# Altium schematic symbol library OltestLib_RC.SchLib: 96 symbols
Pins are listed as number, name and electrical type; pins without a type are passive.

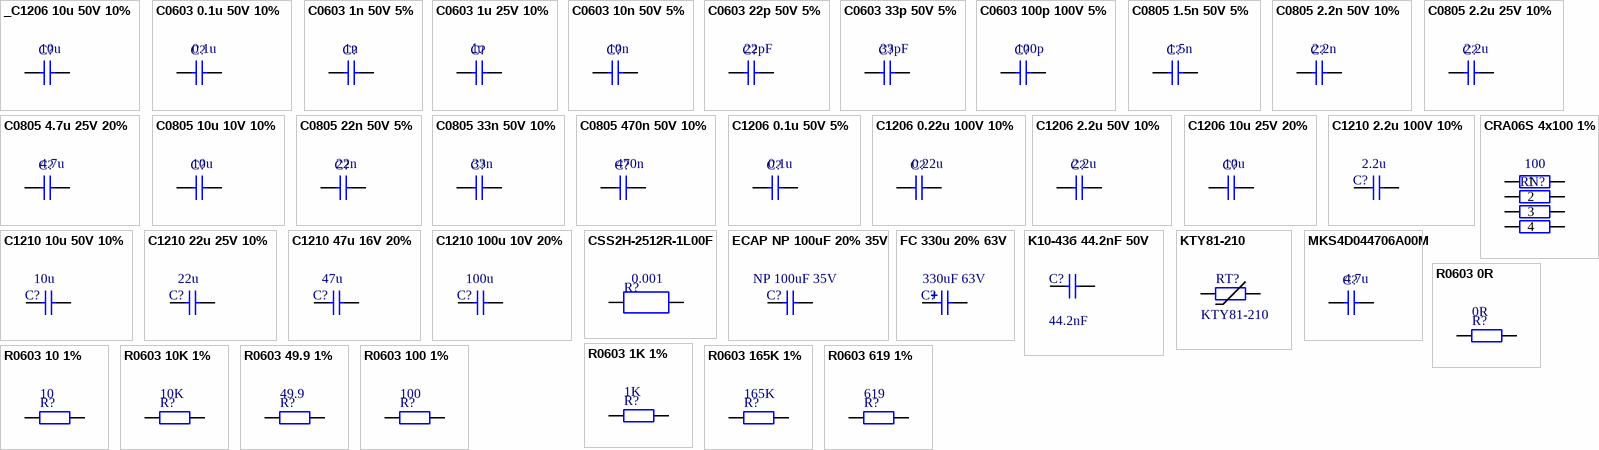
[diagram p0: symbols _C1206 10u 50V 10% to R0603 619 1%]

## _C1206 10u 50V 10%
designator C?, comment 10u
SMD 1206 TDK 50V 10% X5R; PartNumber: C3216X5R1H106K160AB; Manufacturer: TDK; Value: 10u
footprint SMD_C_1206
pins: 1, 2

## C0603 0.1u 50V 10%
designator C?, comment 0.1u
SMD 0603 MURATA 50V 10% X7R; PartNumber: GRM188R71H104K; Manufacturer: MURATA; Value: 0.1u
footprint SMD_C_0603
pins: 1, 2

## C0603 1n 50V 5%
designator C?, comment 1n
SMD 0603 MURATA 50V 5% NP0; PartNumber: GRM1885C1H102JA01; Manufacturer: MURATA; Value: 1n
footprint SMD_C_0603
pins: 1, 2

## C0603 1u 25V 10%
designator C?, comment 1u
SMD 0603 MURATA 25V 10% X7R; PartNumber: GRM188R71E105KA12; Manufacturer: MURATA; Value: 1u
footprint SMD_C_0603
pins: 1, 2

## C0603 10n 50V 5%
designator C?, comment 10n
SMD 0603 MURATA 50V 5% NP0; PartNumber: GRM1885C1H103JA01#; Manufacturer: MURATA; Value: 10n
footprint SMD_C_0603
pins: 1, 2

## C0603 22p 50V 5%
designator C?, comment 22pF
SMD 0603 MURATA 50V 5% NP0; PartNumber: GRM0335C1H220JA01D; Manufacturer: MURATA; Value: 22pF
footprint SMD_C_0603
pins: 1, 2

## C0603 33p 50V 5%
designator C?, comment 33pF
SMD 0603 MURATA 50V 5% NP0; PartNumber: GRM1885C1H330JA01; Manufacturer: MURATA; Value: 33pF
footprint SMD_C_0603
pins: 1, 2

## C0603 100p 100V 5%
designator C?, comment 100p
SMD 0603 MURATA 100V 5% NP0; PartNumber: GRM1885C2A101JA01; Manufacturer: MURATA; Value: 100p
footprint SMD_C_0603
pins: 1, 2

## C0805 1.5n 50V 5%
designator C?, comment 1.5n
SMD 0805 MURATA 50V 5% NP0; PartNumber: GRM2165C1H152JA01; Manufacturer: MURATA; Value: 1.5n
footprint SMD_C_0805
pins: 1, 2

## C0805 2.2n 50V 10%
designator C?, comment 2.2n
SMD 0805 MURATA 50V 10% X7R; PartNumber: GRM216R71H222K; Manufacturer: MURATA; Value: 2.2n
footprint SMD_C_0805
pins: 1, 2

## C0805 2.2u 25V 10%
designator C?, comment 2.2u
SMD 0805 MURATA 25V 10% X7R; PartNumber: GRM21BR61H225M; Manufacturer: MURATA; Value: 2.2u
footprint SMD_C_0805
pins: 1, 2

## C0805 4.7u 25V 20%
designator C?, comment 4.7u
SMD 0805 MURATA 4.7uF 25V 20%  X5R; PartNumber: GRM21BR61E475M; Manufacturer: MURATA; Value: 4.7u
footprint SMD_C_0805
pins: 1, 2

## C0805 10u 10V 10%
designator C?, comment 10u
SMD 0805 MURATA 10uF 10V 10% X7R; PartNumber: GRM21BR71A106KE51; Manufacturer: MURATA; Value: 10u
footprint SMD_C_0805
pins: 1, 2

## C0805 22n 50V 5%
designator C?, comment 22n
SMD 0805 MURATA 50V 5% NP0; PartNumber: GRM21B5C1H223JA01; Manufacturer: MURATA; Value: 22n
footprint SMD_C_0805
pins: 1, 2

## C0805 33n 50V 10%
designator C?, comment 33n
SMD 0805 MURATA 50V 10% X7R; PartNumber: GRM219R71H333KA01; Manufacturer: MURATA; Value: 33n
footprint SMD_C_0805
pins: 1, 2

## C0805 470n 50V 10%
designator C?, comment 470n
SMD 0805 MURATA 50V 10% X7R; PartNumber: GRM21BR71H474K; Manufacturer: MURATA; Value: 470n
footprint SMD_C_0805
pins: 1, 2

## C1206 0.1u 50V 5%
designator C?, comment 0.1u
SMD 1206 MURATA 50V 5% NP0; PartNumber: GRM31C5C1H104JA01L; Manufacturer: MURATA; Value: 0.1u
footprint SMD_C_1206
pins: 1, 2

## C1206 0.22u 100V 10%
designator C?, comment 0.22u
SMD 1206 MURATA 100V 10% X7R; PartNumber: GRM31MR72A224KA01; Manufacturer: MURATA; Value: 0.22u
footprint SMD_C_1206
pins: 1, 2

## C1206 2.2u 50V 10%
designator C?, comment 2.2u
SMD 1206 MURATA 50V 10% X7R; PartNumber: GRM31CR71H225KA88L; Manufacturer: MURATA; Value: 2.2u
footprint SMD_C_1206
pins: 1, 2

## C1206 10u 25V 20%
designator C?, comment 10u
SMD 1206 MURATA 25V 20% X5R; PartNumber: GRM31MR61E106M; Manufacturer: MURATA; Value: 10u
footprint SMD_C_1206
pins: 1, 2

## C1210 2.2u 100V 10%
designator C?, comment 2.2u
SMD 1210 MURATA 100V 10% X7R; PartNumber: GRM32ER72A225KA35L; Manufacturer: MURATA; Value: 2.2u
footprint SMD_C_1210 (Chip Capacitor, 2-Leads, Body 3,20x2,50mm, IPC Low Density)
pins: 1, 2

## C1210 10u 50V 10%
designator C?, comment 10u
SMD 1210 MURATA 50V 10% X7R; PartNumber: GRM32ER71H106KA12; Manufacturer: MURATA; Value: 10u
footprint SMD_C_1210 (Chip Capacitor, 2-Leads, Body 3,20x2,50mm, IPC Low Density)
pins: 1, 2

## C1210 22u 25V 10%
designator C?, comment 22u
SMD 1210 MURATA 25V 10% X7R; PartNumber: GRM32ER71E226K; Manufacturer: MURATA; Value: 22u
footprint SMD_C_1210 (Chip Capacitor, 2-Leads, Body 3,20x2,50mm, IPC Low Density)
pins: 1, 2

## C1210 47u 16V 20%
designator C?, comment 47u
SMD 1210 MURATA 16V 20% X5R; PartNumber: GRM32ER61C476ME15; Manufacturer: MURATA; Value: 47u
footprint SMD_C_1210 (Chip Capacitor, 2-Leads, Body 3,20x2,50mm, IPC Low Density)
pins: 1, 2

## C1210 100u 10V 20%
designator C?, comment 100u
SMD 1210 MURATA 10V 20% X5R; PartNumber: GRM32ER61A107ME20; Manufacturer: MURATA; Value: 100u
footprint SMD_C_1210 (Chip Capacitor, 2-Leads, Body 3,20x2,50mm, IPC Low Density)
pins: 1, 2

## CRA06S 4x100 1%
designator RN?, comment 100
SMD RESISTOR ARRAY VISHAY 0.063W 50V 1% 100ppm; PartNumber: CRA06S083100RF; Manufacturer: VISHAY; Value: 100
footprint CRA06S (Chip Array, ConvexS, 8-Leads, Pitch 0,80mm,  Body 3,20x1,50mm,  IPC Low Density)
pins: 1, 2, 3, 4, 5, 6, 7, 8

## CSS2H-2512R-1L00F
designator R?, comment value 0.001  (hidden comment: 5W R001 1%)
CSS2H 5W R001 1% 50PPM; PartNumber: CSS2H-2512R-1L00F; Manufacturer: Bourns
footprint CSS2H-2512 (Current Sense Resistor, 2-Leads, Body 6,35x3,05mm (2512))
pins: 1, 2

## ECAP NP 100uF 20% 35V
designator C?, comment NP 100uF 35V
Aluminum Electrolytic Radial D10 L16 LS5 25V 20%; PartNumber: ECA1VEN101; Manufacturer: Panasonic; Value: NP 100uF 35V
footprint El_NP_D10_H16_LS5.0
pins: 1, 2

## FC 330u 20% 63V
designator C?, comment 330uF 63V
Aluminum Electrolytic Radial D12.5 L20 LS5 63V 20%; PartNumber: EEUFC1J331; Manufacturer: Panasonic; Value: 330uF 63V
footprint El_D12.5_H20_LS5.0
pins: 1, 2

## K10-43б 44.2nF 50V
designator C?, comment 44.2nF
K10-43б 44.2nF 50V Керамика; PartNumber: K10-43б 44.2nF 50V 2% ОЖО.460.165 ТУ; Manufacturer: Монолит; Value: 44.2nF
pins: 1, 2

## KTY81-210
designator RT?, comment PartNumber: KTY81-210  (hidden comment: 1K)
Silicon temperature sensor SOD70; Manufacturer: NXP; Value: 1K
footprint SOD70
pins: 1, 2

## MKS4D044706A00M
designator C?, comment 4.7u
MKS4 WIMA 100V 20% Metallized Polyester Capacitor; PartNumber: MKS4D044706A00M; Manufacturer: WIMA; Value: 4.7u
footprint MKS4D044706A00
pins: 1, 2

## R0603 0R
designator R?, comment 0R
SMD 0603 VISHAY 0.1W; PartNumber: CRCW06030000Z0; Manufacturer: VISHAY; Value: 0R
footprint SMD_R_0603
pins: 1, 2

## R0603 1K 1%
designator R?, comment 1K
SMD 0603 VISHAY 0.1W 75V 1% 100ppm; PartNumber: CRCW06031K00FK; Manufacturer: VISHAY; Value: 1K
footprint SMD_R_0603
pins: 1, 2

## R0603 10 1%
designator R?, comment 10
SMD 0603 VISHAY 0.1W 75V 1% 100ppm; PartNumber: CRCW060310R0FK; Manufacturer: VISHAY; Value: 10
footprint SMD_R_0603
pins: 1, 2

## R0603 10K 1%
designator R?, comment 10K
SMD 0603 VISHAY 0.1W 75V 1% 100ppm; PartNumber: CRCW060310K0FK; Manufacturer: VISHAY; Value: 10K
footprint SMD_R_0603
pins: 1, 2

## R0603 49.9 1%
designator R?, comment 49.9
SMD 0603 VISHAY 0.1W 75V 1% 100ppm; PartNumber: CRCW060349R9FK; Manufacturer: VISHAY; Value: 49.9
footprint SMD_R_0603
pins: 1, 2

## R0603 100 1%
designator R?, comment 100
SMD 0603 VISHAY 0.1W 75V 1% 100ppm; PartNumber: CRCW0603100RFK; Manufacturer: VISHAY; Value: 100
footprint SMD_R_0603
pins: 1, 2

## R0603 165K 1%
designator R?, comment 165K
SMD 0603 VISHAY 0.1W 75V 1% 100ppm; PartNumber: CRCW0603165KFK; Manufacturer: VISHAY; Value: 165K
footprint SMD_R_0603
pins: 1, 2

## R0603 619 1%
designator R?, comment 619
SMD 0603 VISHAY 0.1W 75V 1% 100ppm; PartNumber: CRCW0603619RFK; Manufacturer: VISHAY; Value: 619
footprint SMD_R_0603
pins: 1, 2

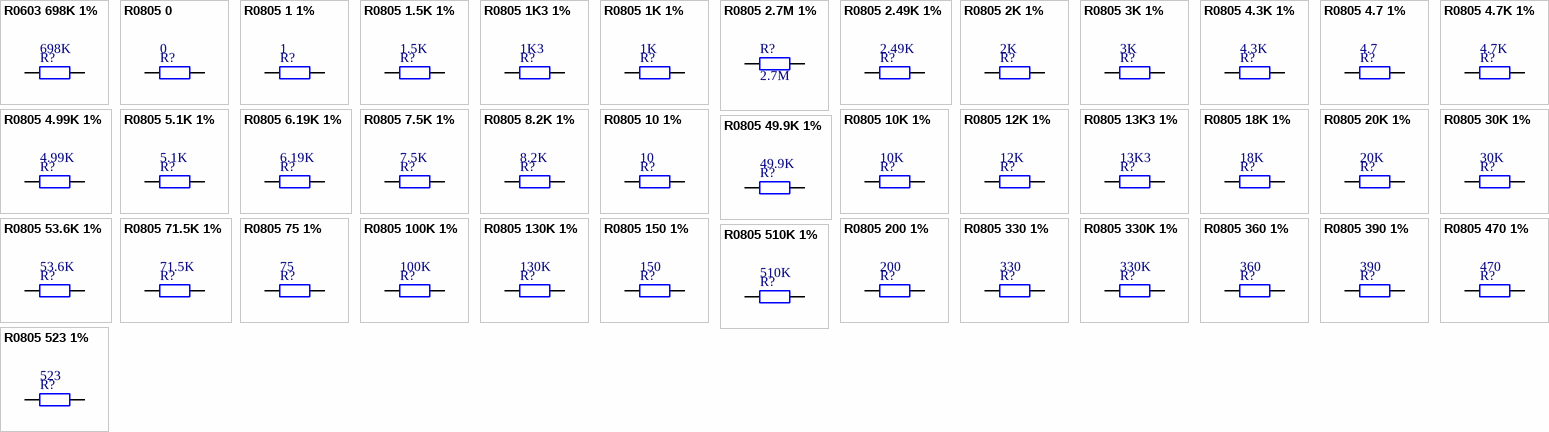
[diagram p1: symbols R0603 698K 1% to R0805 523 1%]

## R0603 698K 1%
designator R?, comment 698K
SMD 0603 VISHAY 0.1W 75V 1% 100ppm; PartNumber: CRCW0603698KFK; Manufacturer: VISHAY; Value: 698K
footprint SMD_R_0603
pins: 1, 2

## R0805 0
designator R?, comment 0
SMD 0805 VISHAY; PartNumber: CRCW08050000ZC; Manufacturer: VISHAY; Value: 0
footprint SMD_R_0805
pins: 1, 2

## R0805 1 1%
designator R?, comment 1
SMD 0805 VISHAY 0.125W 150V 1% 100ppm; PartNumber: CRCW08051R00FK; Manufacturer: VISHAY; Value: 1
footprint SMD_R_0805
pins: 1, 2

## R0805 1.5K 1%
designator R?, comment 1.5K
SMD 0805 VISHAY 0.125W 150V 1% 100ppm; PartNumber: CRCW08051K50FK; Manufacturer: VISHAY; Value: 1.5K
footprint SMD_R_0805
pins: 1, 2

## R0805 1K3 1%
designator R?, comment 1K3
SMD 0805 VISHAY 0.125W 150V 1% 100ppm; PartNumber: CRCW08051K30FK; Manufacturer: VISHAY; Value: 1K3
footprint SMD_R_0805
pins: 1, 2

## R0805 1K 1%
designator R?, comment 1K
SMD 0805 VISHAY 0.125W 150V 1% 100ppm; PartNumber: CRCW08051K00FK; Manufacturer: VISHAY; Value: 1K
footprint SMD_R_0805
pins: 1, 2

## R0805 2.7M 1%
designator R?, comment 2.7M
SMD 0805 VISHAY 0.125W 150V 1% 100ppm; PartNumber: CRCW08052M70FK; Manufacturer: VISHAY; Value: 2.7M
footprint SMD_R_0805
pins: 1, 2

## R0805 2.49K 1%
designator R?, comment 2.49K
SMD 0805 VISHAY 0.125W 150V 1% 100ppm; PartNumber: CRCW08052K49FK; Manufacturer: VISHAY; Value: 2.49K
footprint SMD_R_0805
pins: 1, 2

## R0805 2K 1%
designator R?, comment 2K
SMD 0805 VISHAY 0.125W 150V 1% 100ppm; PartNumber: CRCW08052K00FK; Manufacturer: VISHAY; Value: 2K
footprint SMD_R_0805
pins: 1, 2

## R0805 3K 1%
designator R?, comment 3K
SMD 0805 VISHAY 0.125W 150V 1% 100ppm; PartNumber: CRCW08053K00FK; Manufacturer: VISHAY; Value: 3K
footprint SMD_R_0805
pins: 1, 2

## R0805 4.3K 1%
designator R?, comment 4.3K
SMD 0805 VISHAY 0.125W 150V 1% 100ppm; PartNumber: CRCW08054K30FK; Manufacturer: VISHAY; Value: 4.3K
footprint SMD_R_0805
pins: 1, 2

## R0805 4.7 1%
designator R?, comment 4.7
SMD 0805 VISHAY 0.125W 150V 1% 100ppm; PartNumber: CRCW08054R70FK; Manufacturer: VISHAY; Value: 4.7
footprint SMD_R_0805
pins: 1, 2

## R0805 4.7K 1%
designator R?, comment 4.7K
SMD 0805 VISHAY 0.125W 150V 1% 100ppm; PartNumber: CRCW08054K70FK; Manufacturer: VISHAY; Value: 4.7K
footprint SMD_R_0805
pins: 1, 2

## R0805 4.99K 1%
designator R?, comment 4.99K
SMD 0805 VISHAY 0.125W 150V 1% 100ppm; PartNumber: CRCW08054K99FK; Manufacturer: VISHAY; Value: 4.99K
footprint SMD_R_0805
pins: 1, 2

## R0805 5.1K 1%
designator R?, comment 5.1K
SMD 0805 VISHAY 0.125W 150V 1% 100ppm; PartNumber: CRCW08055K10FK; Manufacturer: VISHAY; Value: 5.1K
footprint SMD_R_0805
pins: 1, 2

## R0805 6.19K 1%
designator R?, comment 6.19K
SMD 0805 VISHAY 0.125W 150V 1% 100ppm; PartNumber: CRCW08056K19FK; Manufacturer: VISHAY; Value: 6.19K
footprint SMD_R_0805
pins: 1, 2

## R0805 7.5K 1%
designator R?, comment 7.5K
SMD 0805 VISHAY 0.125W 150V 1% 100ppm; PartNumber: CRCW08057K50FK; Manufacturer: VISHAY; Value: 7.5K
footprint SMD_R_0805
pins: 1, 2

## R0805 8.2K 1%
designator R?, comment 8.2K
SMD 0805 VISHAY 0.125W 150V 1% 100ppm; PartNumber: CRCW08058K20FK; Manufacturer: VISHAY; Value: 8.2K
footprint SMD_R_0805
pins: 1, 2

## R0805 10 1%
designator R?, comment 10
SMD 0805 VISHAY 0.125W 150V 1% 100ppm; PartNumber: CRCW080510R0FK; Manufacturer: VISHAY; Value: 10
footprint SMD_R_0805
pins: 1, 2

## R0805 10K 1%
designator R?, comment 10K
SMD 0805 VISHAY 0.125W 150V 1% 100ppm; PartNumber: CRCW080510K0FK; Manufacturer: VISHAY; Value: 10K
footprint SMD_R_0805
pins: 1, 2

## R0805 12K 1%
designator R?, comment 12K
SMD 0805 VISHAY 0.125W 150V 1% 100ppm; PartNumber: CRCW080512K0FK; Manufacturer: VISHAY; Value: 12K
footprint SMD_R_0805
pins: 1, 2

## R0805 13K3 1%
designator R?, comment 13K3
SMD 0805 VISHAY 0.125W 150V 1% 100ppm; PartNumber: CRCW080513K3FK; Manufacturer: VISHAY; Value: 13K3
footprint SMD_R_0805
pins: 1, 2

## R0805 18K 1%
designator R?, comment 18K
SMD 0805 VISHAY 0.125W 150V 1% 100ppm; PartNumber: CRCW080518K0FK; Manufacturer: VISHAY; Value: 18K
footprint SMD_R_0805
pins: 1, 2

## R0805 20K 1%
designator R?, comment 20K
SMD 0805 VISHAY 0.125W 150V 1% 100ppm; PartNumber: CRCW080520K0FK; Manufacturer: VISHAY; Value: 20K
footprint SMD_R_0805
pins: 1, 2

## R0805 30K 1%
designator R?, comment 30K
SMD 0805 VISHAY 0.125W 150V 1% 100ppm; PartNumber: CRCW080530K0FK; Manufacturer: VISHAY; Value: 30K
footprint SMD_R_0805
pins: 1, 2

## R0805 49.9K 1%
designator R?, comment 49.9K
SMD 0805 VISHAY 0.125W 150V 1% 100ppm; PartNumber: CRCW080549K9FK; Manufacturer: VISHAY; Value: 49.9K
footprint SMD_R_0805
pins: 1, 2

## R0805 53.6K 1%
designator R?, comment 53.6K
SMD 0805 VISHAY 0.125W 150V 1% 100ppm; PartNumber: CRCW080553K6FK; Manufacturer: VISHAY; Value: 53.6K
footprint SMD_R_0805
pins: 1, 2

## R0805 71.5K 1%
designator R?, comment 71.5K
SMD 0805 VISHAY 0.125W 150V 1% 100ppm; PartNumber: CRCW080571K5FK; Manufacturer: VISHAY; Value: 71.5K
footprint SMD_R_0805
pins: 1, 2

## R0805 75 1%
designator R?, comment 75
SMD 0805 VISHAY 0.125W 150V 1% 100ppm; PartNumber: CRCW080575R0FK; Manufacturer: VISHAY; Value: 75
footprint SMD_R_0805
pins: 1, 2

## R0805 100K 1%
designator R?, comment 100K
SMD 0805 VISHAY 0.125W 150V 1% 100ppm; PartNumber: CRCW0805100KFK; Manufacturer: VISHAY; Value: 100K
footprint SMD_R_0805
pins: 1, 2

## R0805 130K 1%
designator R?, comment 130K
SMD 0805 VISHAY 0.125W 150V 1% 100ppm; PartNumber: CRCW0805130KFK; Manufacturer: VISHAY; Value: 130K
footprint SMD_R_0805
pins: 1, 2

## R0805 150 1%
designator R?, comment 150
SMD 0805 VISHAY 0.125W 150V 1% 100ppm; PartNumber: CRCW0805150RFK; Manufacturer: VISHAY; Value: 150
footprint SMD_R_0805
pins: 1, 2

## R0805 200 1%
designator R?, comment 200
SMD 0805 VISHAY 0.125W 150V 1% 100ppm; PartNumber: CRCW0805200RFK; Manufacturer: VISHAY; Value: 200
footprint SMD_R_0805
pins: 1, 2

## R0805 330 1%
designator R?, comment 330
SMD 0805 VISHAY 0.125W 150V 1% 100ppm; PartNumber: CRCW0805330RFK; Manufacturer: VISHAY; Value: 330
footprint SMD_R_0805
pins: 1, 2

## R0805 330K 1%
designator R?, comment 330K
SMD 0805 VISHAY 0.125W 150V 1% 100ppm; PartNumber: CRCW0805330KFK; Manufacturer: VISHAY; Value: 330K
footprint SMD_R_0805
pins: 1, 2

## R0805 360 1%
designator R?, comment 360
SMD 0805 VISHAY 0.125W 150V 1% 100ppm; PartNumber: CRCW0805360RFK; Manufacturer: VISHAY; Value: 360
footprint SMD_R_0805
pins: 1, 2

## R0805 390 1%
designator R?, comment 390
SMD 0805 VISHAY 0.125W 150V 1% 100ppm; PartNumber: CRCW0805390RFK; Manufacturer: VISHAY; Value: 390
footprint SMD_R_0805
pins: 1, 2

## R0805 470 1%
designator R?, comment 470
SMD 0805 VISHAY 0.125W 150V 1% 100ppm; PartNumber: CRCW0805470RFK; Manufacturer: VISHAY; Value: 470
footprint SMD_R_0805
pins: 1, 2

## R0805 510K 1%
designator R?, comment 510K
SMD 0805 VISHAY 0.125W 150V 1% 100ppm; PartNumber: CRCW0805510KFK; Manufacturer: VISHAY; Value: 510K
footprint SMD_R_0805
pins: 1, 2

## R0805 523 1%
designator R?, comment 523
SMD 0805 VISHAY 0.125W 150V 1% 100ppm; PartNumber: CRCW0805523RFK; Manufacturer: VISHAY; Value: 523
footprint SMD_R_0805
pins: 1, 2

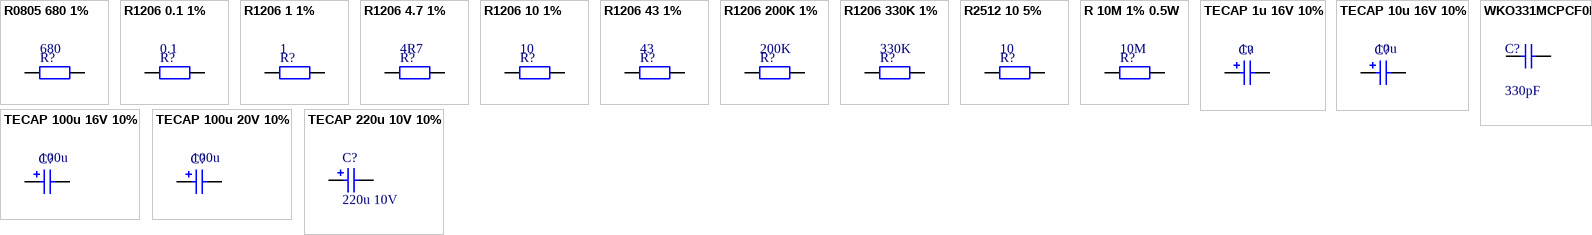
[diagram p2: symbols R0805 680 1% to WKO331MCPCF0KR]

## R0805 680 1%
designator R?, comment 680
SMD 0805 VISHAY 0.125W 150V 1% 100ppm; PartNumber: CRCW0805680RFK; Manufacturer: VISHAY; Value: 680
footprint SMD_R_0805
pins: 1, 2

## R1206 0.1 1%
designator R?, comment 0.1
SMD 1206 Viking Tech 0.25W 200V 1% 100ppm; PartNumber: RS-06FL7-0R1; Manufacturer: Viking Tech; Value: 0.1
footprint SMD_R_1206
pins: 1, 2

## R1206 1 1%
designator R?, comment 1
SMD 1206 VISHAY 0.25W 200V 1% 100ppm; PartNumber: CRCW12061R00FK; Manufacturer: VISHAY; Value: 1
footprint SMD_R_1206
pins: 1, 2

## R1206 4.7 1%
designator R?, comment 4R7
SMD 1206 VISHAY 0.25W 200V 1% 100ppm; PartNumber: CRCW12064R7FK; Manufacturer: VISHAY; Value: 4R7
footprint SMD_R_1206
pins: 1, 2

## R1206 10 1%
designator R?, comment 10
SMD 1206 VISHAY 0.25W 200V 1% 100ppm; PartNumber: CRCW120610R0FK; Manufacturer: VISHAY; Value: 10
footprint SMD_R_1206
pins: 1, 2

## R1206 43 1%
designator R?, comment 43
SMD 1206 VISHAY 0.25W 200V 1% 100ppm; PartNumber: CRCW120643R0FK; Manufacturer: VISHAY; Value: 43
footprint SMD_R_1206
pins: 1, 2

## R1206 200K 1%
designator R?, comment 200K
SMD 1206 VISHAY 0.25W 200V 1% 100ppm; PartNumber: CRCW1206200KFK; Manufacturer: VISHAY; Value: 200K
footprint SMD_R_1206
pins: 1, 2

## R1206 330K 1%
designator R?, comment 330K
SMD 1206 VISHAY 0.125W 200V 1% 100ppm; PartNumber: CRCW1206330KFK; Manufacturer: VISHAY; Value: 330K
footprint SMD_R_1206 (Chip Resistor, 2-Leads, Body 3,15x1,60mm, IPC Low Density)
pins: 1, 2

## R2512 10 5%
designator R?, comment 10
SMD 2512 VISHAY 1W 500V 5% 200ppm; PartNumber: CRCW12061R00FK; Manufacturer: VISHAY; Value: 10
footprint SMD_R_2512
pins: 1, 2

## R 10M 1% 0.5W
designator R?, comment 10M
VR37 0.5W VISHAY 700V 1% 200ppm; PartNumber: VR37000001005F; Manufacturer: VISHAY; Value: 10M
footprint VR37-0.5W (Axial 0.5W)
pins: 1, 2

## TECAP 1u 16V 10%
designator C?, comment 1u
SMD SIZE A TANTALUM AVX 16V 10%; PartNumber: TAJA105K016RNJ; Manufacturer: AVX; Value: 1u
footprint TAJA
pins: 1, 2

## TECAP 10u 16V 10%
designator C?, comment 10u
SMD SIZE A TANTALUM AVX 16V 10%; PartNumber: TAJA106K016RNJ; Manufacturer: AVX; Value: 10u
footprint TAJA
pins: 1, 2

## TECAP 100u 16V 10%
designator C?, comment 100u
SMD SIZE C TANTALUM AVX 16V 10%; PartNumber: TAJC107K016RNJ; Manufacturer: AVX; Value: 100u
footprint TAJC (Molded Capacitor, 2-Leads, Body 6,00x3,25mm, IPC Low Density)
pins: 1, 2

## TECAP 100u 20V 10%
designator C?, comment 100u
SMD SIZE D TANTALUM AVX 20V 10%; PartNumber: TAJD107K020RNJ; Manufacturer: AVX; Value: 100u
footprint TAJD (Molded Capacitor, 2-Leads, Body 7,30x4,35mm, IPC Medium Density)
pins: 1, 2

## TECAP 220u 10V 10%
designator C?, comment 220u 10V
SMD SIZE D TANTALUM AVX 10V 10%; PartNumber: TAJD227K010RNJV; Manufacturer: AVX; Value: 220u 10V
footprint TAJD (Molded Capacitor, 2-Leads, Body 7,30x4,35mm, IPC Medium Density)
pins: 1, 2

## WKO331MCPCF0KR
designator C?, comment 330pF
CCAP CY2P 330pF 300VAC X1Y2; PartNumber: WKO331MCPCF0KR; Manufacturer: Монолит; Value: 330pF
footprint X1Y2-horizontal (Capacitor)
pins: 1, 2